# Altium schematic symbol library SCH - OPAMP - ANALOG DEV ADA4807-1.SCHLIB: 1 symbol
Pins are listed as number, name and electrical type; pins without a type are passive.

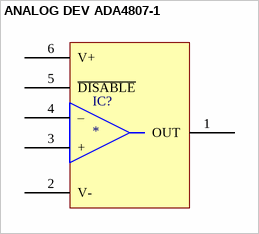
[diagram p0: symbol ANALOG DEV ADA4807-1]

## ANALOG DEV ADA4807-1
designator IC?
pins: 1 OUT, 2 V-, 3 +, 4 –, 5 ~{DISABLE}, 6 V+